# Altium schematic symbol library diodes.SchLib: 18 symbols
Pins are listed as number, name and electrical type; pins without a type are passive.

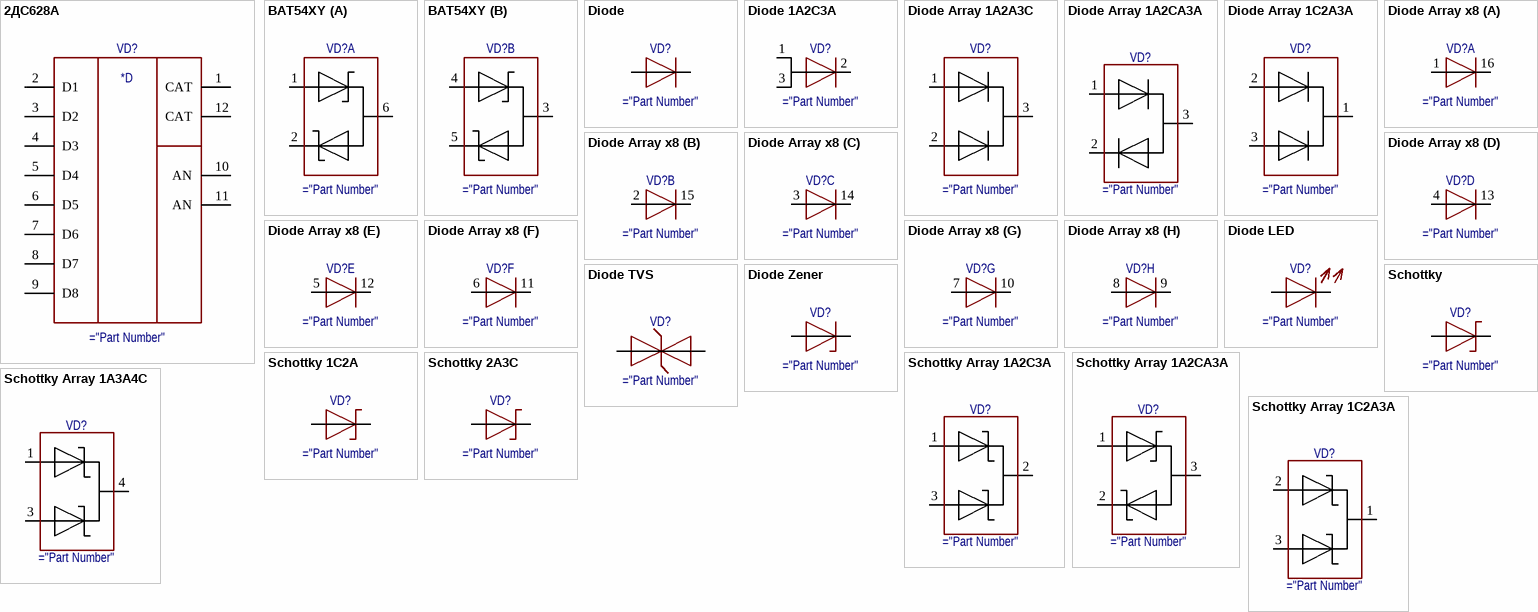
[diagram p0: symbols 2ДС628А to Schottky Array 1C2A3A]

## 2ДС628А
designator VD?
Диодная матрица
pins: 1 CAT, 2 D1, 3 D2, 4 D3, 5 D4, 6 D5, 7 D6, 8 D7, 9 D8, 10 AN, 11 AN, 12 CAT
text: *D

## BAT54XY
designator VD?
Диодная сборка
part A pins: 1 A1, 2 C2, 6 C1/A2
part B pins: 3 C4/A3, 4 A4, 5 C3

## Diode
designator VD?
Диод
pins: 1 Anode, 2 Cathode

## Diode 1A2C3A
designator VD?
Диод
pins: 1 Anode, 2 Cathode, 3 Anode

## Diode Array 1A2A3C
designator VD?
Диодная сборка
pins: 1 Anode, 2 Anode, 3 Cathode

## Diode Array 1A2CA3A
designator VD?
pins: 1 A1, 2 C2, 3 C1/A2

## Diode Array 1C2A3A
designator VD?
Диодная сборка
pins: 1 Cathode, 2 Anode, 3 Anode

## Diode Array x8
designator VD?
Диодная сборка
part A pins: 1 Anode, 16 Cathode
part B pins: 2 Anode, 15 Cathode
part C pins: 3 Anode, 14 Cathode
part D pins: 4 Anode, 13 Cathode
part E pins: 5 Anode, 12 Cathode
part F pins: 6 Anode, 11 Cathode
part G pins: 7 Anode, 10 Cathode
part H pins: 8 Anode, 9 Cathode

## Diode LED
designator VD?
Светодиод
pins: 1 Anode, 2 Cathode

## Diode TVS
designator VD?
Супрессор
pins: 1, 2

## Diode Zener
designator VD?
Стабилитрон
pins: 1 Anode, 2 Cathode

## Schottky
designator VD?
Диод Шоттки
pins: 1 Anode, 2 Cathode

## Schottky 1C2A
designator VD?
Диод Шоттки
pins: 1 Cathode, 2 Anode

## Schottky 2A3C
designator VD?
Диод Шоттки
pins: 2 Anode, 3 Cathode

## Schottky Array 1A2C3A
designator VD?
pins: 1 Anode, 2 Cathode, 3 Anode

## Schottky Array 1A2CA3A
designator VD?
pins: 1 A1, 2 C2, 3 C1/A2

## Schottky Array 1A3A4C
designator VD?
pins: 1 Anode, 3 Anode, 4 Cathode

## Schottky Array 1C2A3A
designator VD?
pins: 1 Cathode, 2 Anode, 3 Anode